# Altium footprint library Capacitor_Tantalum_SMD.PcbLib: 56 footprints (part 3 of 4)
Each footprint in its own frame and in the unit in brackets; x right, y up, seen from the top. Pads: shape width x height; smd on the part's side, far side on the other; paste and mask are expansions set on the pad; w line width, h text height; cw(c..) or ccw(c..) is an arc to the next point about the centre after c.
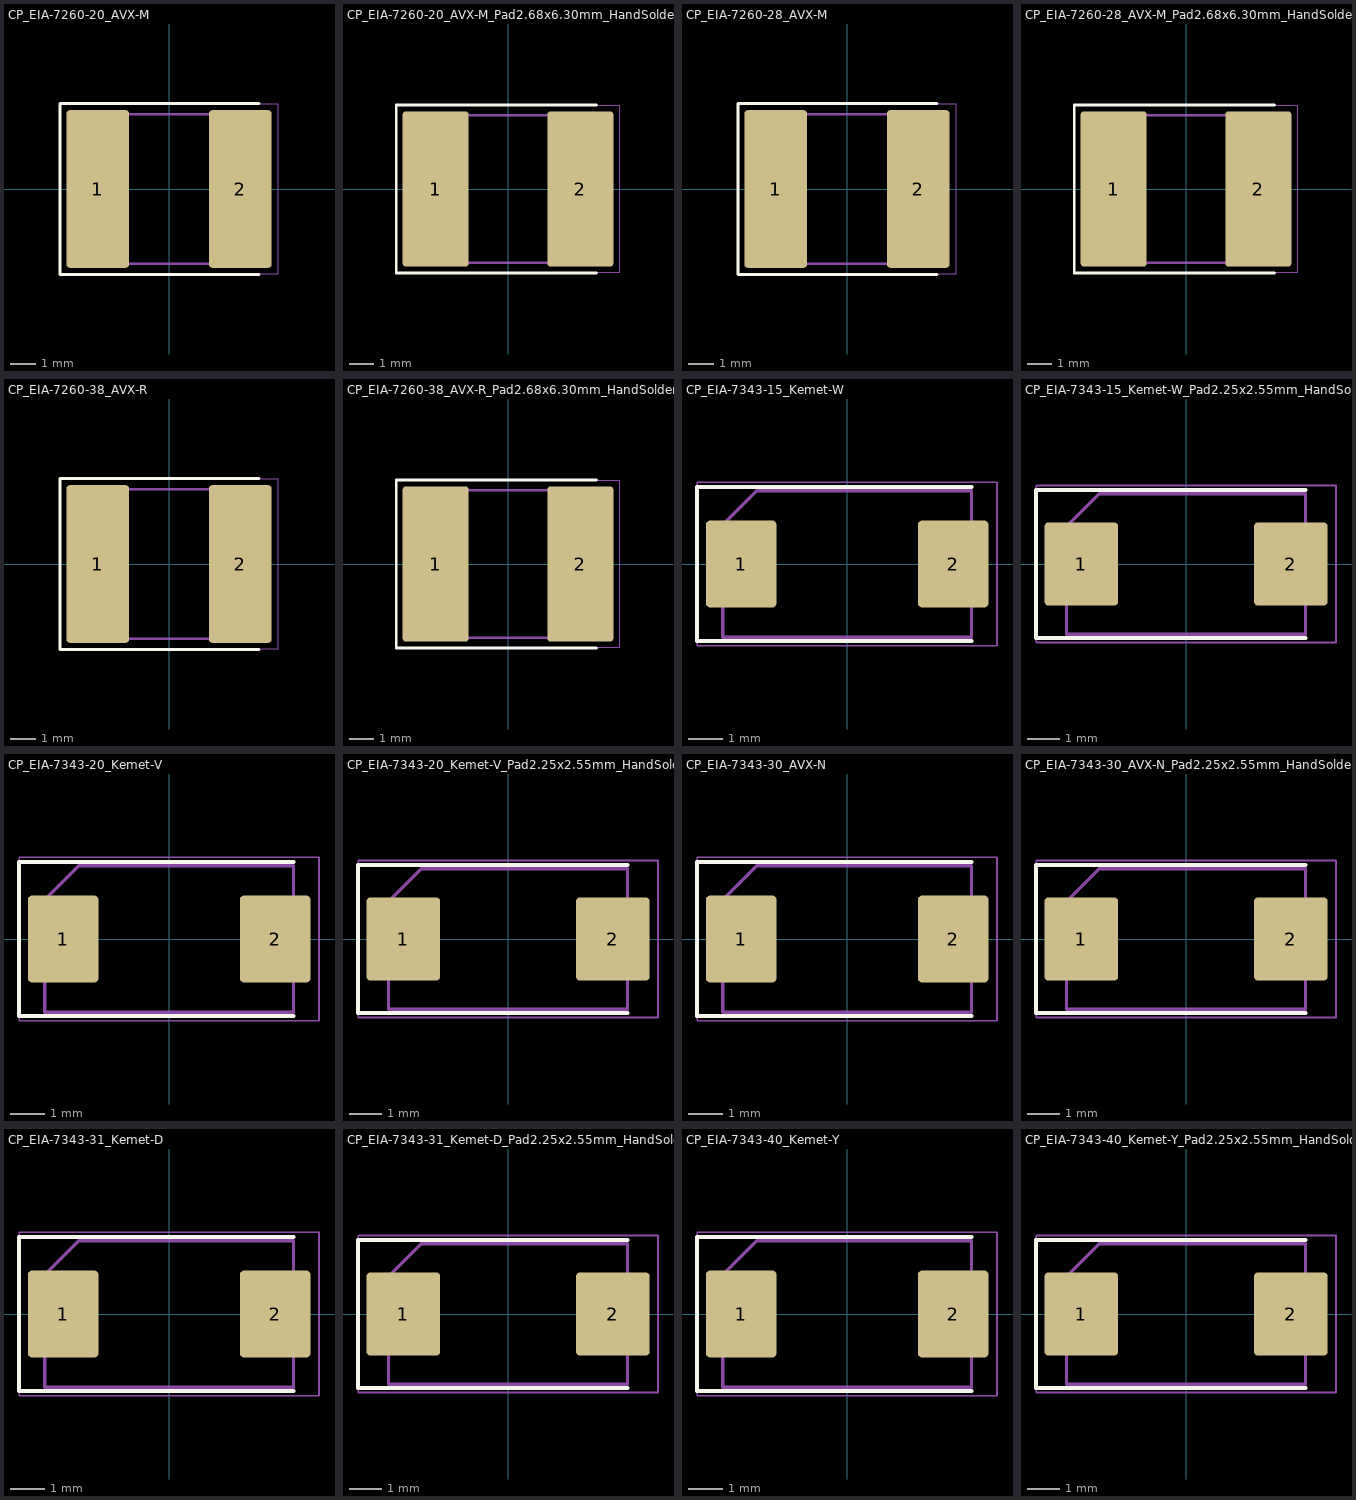
[diagram p2: the footprints below, top view; thin cyan lines are the x and y axes]

## CP_EIA-7260-20_AVX-M [mm]
pads (2):
  rrect10% 2.5x6.3 smd: 1(-2.85,0) 2(2.85,0)
F.SilkS:
  lines w0.12: 3.6,-3.41 -4.36,-3.41 -4.36,3.41 3.6,3.41
F.CrtYd:
  lines w0.05: -4.35,-3.4 -4.35,3.4 4.35,3.4 4.35,-3.4 -4.35,-3.4
F.Fab:
  lines w0.1: -3.6,-3 3.6,-3 3.6,3 -2.6,3 -3.6,2 -3.6,-3
  text "'.Designator'" at -4.047,-0.84 h1

## CP_EIA-7260-20_AVX-M_Pad2.68x6.30mm_HandSolder [mm]
pads (2):
  rrect9% 2.675x6.3 smd: 1(-2.937,0) 2(2.937,0)
F.SilkS:
  lines w0.12: 3.6,-3.41 -4.535,-3.41 -4.535,3.41 3.6,3.41
F.CrtYd:
  lines w0.05: -4.52,-3.4 4.52,-3.4 4.52,3.4 -4.52,3.4 -4.52,-3.4
F.Fab:
  lines w0.1: -3.6,-3 3.6,-3 3.6,3 -2.6,3 -3.6,2 -3.6,-3
  text "'.Designator'" at -4.047,-0.84 h1

## CP_EIA-7260-28_AVX-M [mm]
pads (2):
  rrect10% 2.5x6.3 smd: 1(-2.85,0) 2(2.85,0)
F.SilkS:
  lines w0.12: 3.6,-3.41 -4.36,-3.41 -4.36,3.41 3.6,3.41
F.CrtYd:
  lines w0.05: -4.35,-3.4 -4.35,3.4 4.35,3.4 4.35,-3.4 -4.35,-3.4
F.Fab:
  lines w0.1: -3.6,-3 3.6,-3 3.6,3 -2.6,3 -3.6,2 -3.6,-3
  text "'.Designator'" at -4.047,-0.84 h1

## CP_EIA-7260-28_AVX-M_Pad2.68x6.30mm_HandSolder [mm]
pads (2):
  rrect9% 2.675x6.3 smd: 1(-2.937,0) 2(2.937,0)
F.SilkS:
  lines w0.12: 3.6,-3.41 -4.535,-3.41 -4.535,3.41 3.6,3.41
F.CrtYd:
  lines w0.05: -4.52,-3.4 -4.52,3.4 4.52,3.4 4.52,-3.4 -4.52,-3.4
F.Fab:
  lines w0.1: -3.6,-3 -3.6,2 -2.6,3 3.6,3 3.6,-3 -3.6,-3
  text "'.Designator'" at -4.047,-0.84 h1

## CP_EIA-7260-38_AVX-R [mm]
pads (2):
  rrect10% 2.5x6.3 smd: 1(-2.85,0) 2(2.85,0)
F.SilkS:
  lines w0.12: 3.6,-3.41 -4.36,-3.41 -4.36,3.41 3.6,3.41
F.CrtYd:
  lines w0.05: -4.35,-3.4 -4.35,3.4 4.35,3.4 4.35,-3.4 -4.35,-3.4
F.Fab:
  lines w0.1: -3.6,-3 -3.6,2 -2.6,3 3.6,3 3.6,-3 -3.6,-3
  text "'.Designator'" at -4.047,-0.84 h1

## CP_EIA-7260-38_AVX-R_Pad2.68x6.30mm_HandSolder [mm]
pads (2):
  rrect9% 2.675x6.3 smd: 1(-2.937,0) 2(2.937,0)
F.SilkS:
  lines w0.12: 3.6,-3.41 -4.535,-3.41 -4.535,3.41 3.6,3.41
F.CrtYd:
  lines w0.05: -4.52,-3.4 4.52,-3.4 4.52,3.4 -4.52,3.4 -4.52,-3.4
F.Fab:
  lines w0.1: -3.6,-3 3.6,-3 3.6,3 -2.6,3 -3.6,2 -3.6,-3
  text "'.Designator'" at -4.047,-0.84 h1

## CP_EIA-7343-15_Kemet-W [mm]
pads (2):
  rrect12% 2.075x2.55 smd: 1(-3.113,0) 2(3.113,0)
F.SilkS:
  lines w0.12: 3.65,-2.26 -4.41,-2.26 -4.41,2.26 3.65,2.26
F.CrtYd:
  lines w0.05: -4.4,-2.4 4.4,-2.4 4.4,2.4 -4.4,2.4 -4.4,-2.4
F.Fab:
  lines w0.1: -3.65,-2.15 -3.65,1.15 -2.65,2.15 3.65,2.15 3.65,-2.15 -3.65,-2.15
  text "'.Designator'" at -4.047,-0.84 h1

## CP_EIA-7343-15_Kemet-W_Pad2.25x2.55mm_HandSolder [mm]
pads (2):
  rrect11% 2.25x2.55 smd: 1(-3.2,0) 2(3.2,0)
F.SilkS:
  lines w0.12: 3.65,-2.26 -4.585,-2.26 -4.585,2.26 3.65,2.26
F.CrtYd:
  lines w0.05: -4.58,-2.4 4.58,-2.4 4.58,2.4 -4.58,2.4 -4.58,-2.4
F.Fab:
  lines w0.1: -3.65,-2.15 3.65,-2.15 3.65,2.15 -2.65,2.15 -3.65,1.15 -3.65,-2.15
  text "'.Designator'" at -4.047,-0.84 h1

## CP_EIA-7343-20_Kemet-V [mm]
pads (2):
  rrect12% 2.075x2.55 smd: 1(-3.113,0) 2(3.113,0)
F.SilkS:
  lines w0.12: 3.65,-2.26 -4.41,-2.26 -4.41,2.26 3.65,2.26
F.CrtYd:
  lines w0.05: -4.4,-2.4 4.4,-2.4 4.4,2.4 -4.4,2.4 -4.4,-2.4
F.Fab:
  lines w0.1: -3.65,-2.15 -3.65,1.15 -2.65,2.15 3.65,2.15 3.65,-2.15 -3.65,-2.15
  text "'.Designator'" at -4.047,-0.84 h1

## CP_EIA-7343-20_Kemet-V_Pad2.25x2.55mm_HandSolder [mm]
pads (2):
  rrect11% 2.25x2.55 smd: 1(-3.2,0) 2(3.2,0)
F.SilkS:
  lines w0.12: 3.65,-2.26 -4.585,-2.26 -4.585,2.26 3.65,2.26
F.CrtYd:
  lines w0.05: -4.58,-2.4 4.58,-2.4 4.58,2.4 -4.58,2.4 -4.58,-2.4
F.Fab:
  lines w0.1: -3.65,-2.15 3.65,-2.15 3.65,2.15 -2.65,2.15 -3.65,1.15 -3.65,-2.15
  text "'.Designator'" at -4.047,-0.84 h1

## CP_EIA-7343-30_AVX-N [mm]
pads (2):
  rrect12% 2.075x2.55 smd: 1(-3.113,0) 2(3.113,0)
F.SilkS:
  lines w0.12: 3.65,-2.26 -4.41,-2.26 -4.41,2.26 3.65,2.26
F.CrtYd:
  lines w0.05: -4.4,-2.4 4.4,-2.4 4.4,2.4 -4.4,2.4 -4.4,-2.4
F.Fab:
  lines w0.1: -3.65,-2.15 3.65,-2.15 3.65,2.15 -2.65,2.15 -3.65,1.15 -3.65,-2.15
  text "'.Designator'" at -4.047,-0.84 h1

## CP_EIA-7343-30_AVX-N_Pad2.25x2.55mm_HandSolder [mm]
pads (2):
  rrect11% 2.25x2.55 smd: 1(-3.2,0) 2(3.2,0)
F.SilkS:
  lines w0.12: 3.65,-2.26 -4.585,-2.26 -4.585,2.26 3.65,2.26
F.CrtYd:
  lines w0.05: -4.58,-2.4 -4.58,2.4 4.58,2.4 4.58,-2.4 -4.58,-2.4
F.Fab:
  lines w0.1: -3.65,-2.15 3.65,-2.15 3.65,2.15 -2.65,2.15 -3.65,1.15 -3.65,-2.15
  text "'.Designator'" at -4.047,-0.84 h1

## CP_EIA-7343-31_Kemet-D [mm]
pads (2):
  rrect12% 2.075x2.55 smd: 1(-3.113,0) 2(3.113,0)
F.SilkS:
  lines w0.12: 3.65,-2.26 -4.41,-2.26 -4.41,2.26 3.65,2.26
F.CrtYd:
  lines w0.05: -4.4,-2.4 -4.4,2.4 4.4,2.4 4.4,-2.4 -4.4,-2.4
F.Fab:
  lines w0.1: -3.65,-2.15 -3.65,1.15 -2.65,2.15 3.65,2.15 3.65,-2.15 -3.65,-2.15
  text "'.Designator'" at -4.047,-0.84 h1

## CP_EIA-7343-31_Kemet-D_Pad2.25x2.55mm_HandSolder [mm]
pads (2):
  rrect11% 2.25x2.55 smd: 1(-3.2,0) 2(3.2,0)
F.SilkS:
  lines w0.12: 3.65,-2.26 -4.585,-2.26 -4.585,2.26 3.65,2.26
F.CrtYd:
  lines w0.05: -4.58,-2.4 -4.58,2.4 4.58,2.4 4.58,-2.4 -4.58,-2.4
F.Fab:
  lines w0.1: -3.65,-2.15 -3.65,1.15 -2.65,2.15 3.65,2.15 3.65,-2.15 -3.65,-2.15
  text "'.Designator'" at -4.047,-0.84 h1

## CP_EIA-7343-40_Kemet-Y [mm]
pads (2):
  rrect12% 2.075x2.55 smd: 1(-3.113,0) 2(3.113,0)
F.SilkS:
  lines w0.12: 3.65,-2.26 -4.41,-2.26 -4.41,2.26 3.65,2.26
F.CrtYd:
  lines w0.05: -4.4,-2.4 4.4,-2.4 4.4,2.4 -4.4,2.4 -4.4,-2.4
F.Fab:
  lines w0.1: -3.65,-2.15 -3.65,1.15 -2.65,2.15 3.65,2.15 3.65,-2.15 -3.65,-2.15
  text "'.Designator'" at -4.047,-0.84 h1

## CP_EIA-7343-40_Kemet-Y_Pad2.25x2.55mm_HandSolder [mm]
pads (2):
  rrect11% 2.25x2.55 smd: 1(-3.2,0) 2(3.2,0)
F.SilkS:
  lines w0.12: 3.65,-2.26 -4.585,-2.26 -4.585,2.26 3.65,2.26
F.CrtYd:
  lines w0.05: -4.58,-2.4 -4.58,2.4 4.58,2.4 4.58,-2.4 -4.58,-2.4
F.Fab:
  lines w0.1: -3.65,-2.15 -3.65,1.15 -2.65,2.15 3.65,2.15 3.65,-2.15 -3.65,-2.15
  text "'.Designator'" at -4.047,-0.84 h1